# Altium schematic symbol library small car.SchLib: 5 symbols
Pins are listed as number, name and electrical type; pins without a type are passive.

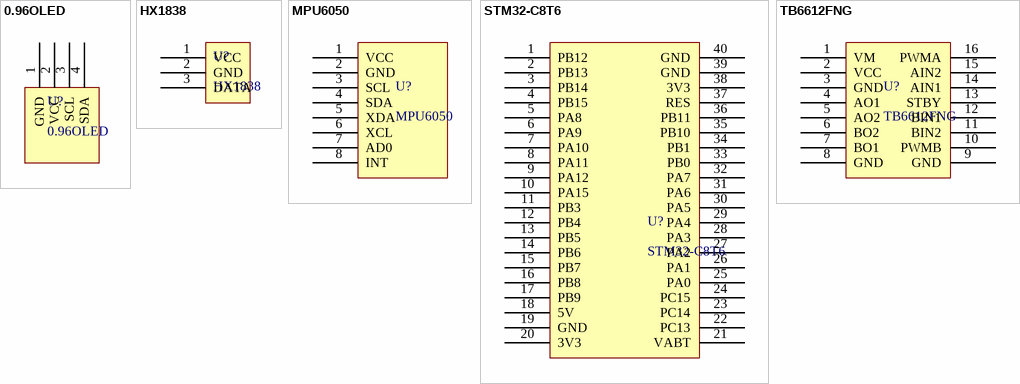
[diagram p0: symbols 0.96OLED to TB6612FNG]

## 0.96OLED
designator U?
footprint 0.96OLED (Footprint not found)
pins: 1 GND, 2 VCC, 3 SCL, 4 SDA

## HX1838
designator U?
footprint VS/HX1838B
pins: 1 VCC, 2 GND, 3 DATA

## MPU6050
designator U?
footprint MPU6050 (Footprint not found)
pins: 1 VCC, 2 GND, 3 SCL, 4 SDA, 5 XDA, 6 XCL, 7 AD0, 8 INT

## STM32-C8T6
designator U?
footprint STM32-C8T6 (Footprint not found)
pins: 1 PB12, 2 PB13, 3 PB14, 4 PB15, 5 PA8, 6 PA9, 7 PA10, 8 PA11, 9 PA12, 10 PA15, 11 PB3, 12 PB4, 13 PB5, 14 PB6, 15 PB7, 16 PB8, 17 PB9, 18 5V, 19 GND, 20 3V3, 21 VABT, 22 PC13, 23 PC14, 24 PC15, 25 PA0, 26 PA1, 27 PA2, 28 PA3, 29 PA4, 30 PA5, 31 PA6, 32 PA7, 33 PB0, 34 PB1, 35 PB10, 36 PB11, 37 RES, 38 3V3, 39 GND, 40 GND

## TB6612FNG
designator U?
footprint TB6612FNG (Footprint not found)
pins: 1 VM, 2 VCC, 3 GND, 4 AO1, 5 AO2, 6 BO2, 7 BO1, 8 GND, 9 GND, 10 PWMB, 11 BIN2, 12 BIN1, 13 STBY, 14 AIN1, 15 AIN2, 16 PWMA